# Altium footprint library componenten.PcbLib: 14 footprints
Each footprint in its own frame and in the unit in brackets; x right, y up, seen from the top. Pads: shape width x height; smd on the part's side, far side on the other; paste and mask are expansions set on the pad; w line width, h text height; cw(c..) or ccw(c..) is an arc to the next point about the centre after c.
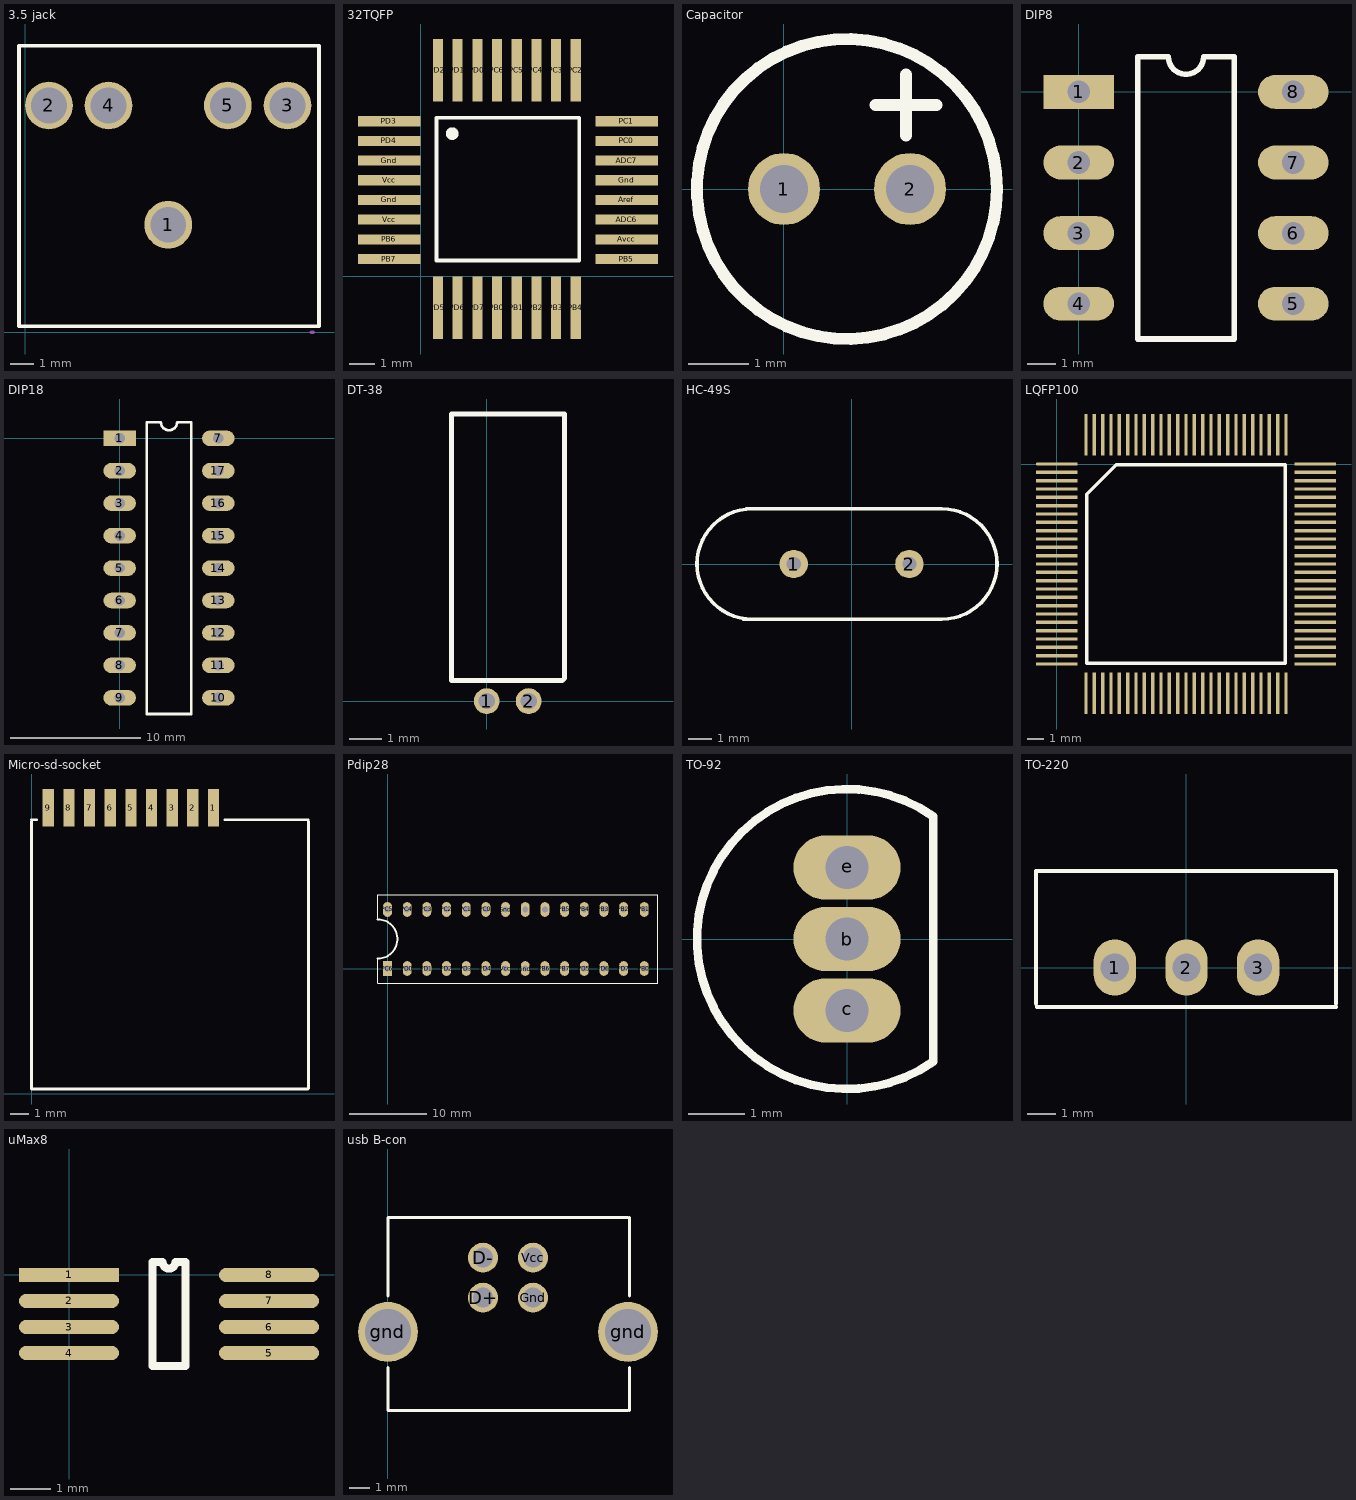
[diagram p0: the footprints below, top view; thin cyan lines are the x and y axes]

## 3.5 jack [mm]
pads (5):
  round 2 hole 1.5: 1(6,4.5) 2(1,9.5) 3(11,9.5) 4(3.5,9.5) 5(8.5,9.5)
Top Overlay:
  lines w0.152: -0.254,0.254 12.319,0.254 12.319,12 -0.254,12 -0.254,0.254
Mechanical 1:
  lines w0.152: 12,0 12.065,0
3D body: height 5, standoff 1, extent 0,0 12,12

## 32TQFP [mm] "Voor atmega328p"
pads (32):
  rect 2.5x0.406 smd: ADC6(8.25,2.273) ADC7(8.25,4.635) Aref(8.25,3.061) Avcc(8.25,1.486) Gnd(-1.25,3.061) Gnd(-1.25,4.635) Gnd(8.25,3.848) PB5(8.25,0.699) PB6(-1.25,1.486) PB7(-1.25,0.699) PC0(8.25,5.423) PC1(8.25,6.21) PD3(-1.25,6.21) PD4(-1.25,5.423) Vcc(-1.25,2.273) Vcc(-1.25,3.848)
  rect 0.406x2.5 smd: PB0(3.061,-1.25) PB1(3.848,-1.25) PB2(4.635,-1.25) PB3(5.423,-1.25) PB4(6.21,-1.25) PC2(6.21,8.25) PC3(5.423,8.25) PC4(4.635,8.25) PC5(3.848,8.25) PC6(3.061,8.25) PD0(2.273,8.25) PD1(1.486,8.25) PD2(0.699,8.25) PD5(0.699,-1.25) PD6(1.486,-1.25) PD7(2.273,-1.25)
Top Overlay:
  lines w0.152: 0.635,0.635 0.635,6.35 6.35,6.35 6.35,0.635 0.635,0.635
  lines w0.254: 1.384,5.658 cw(c1.27,5.715) 1.397,5.715
3D body: height 1.27, standoff 0.05, extent 0,0 6.985,6.985

## Capacitor [mm]
pads (2):
  round 1.2 hole 0.8: 1(0,0) 2(2.1,0)
Top Overlay:
  circle w0.2: c1.05,0 r2.5
  lines w0.2: 1.524,1.397 2.54,1.397 ; 2.032,0.889 2.032,1.905
3D body: height 11, standoff 0, extent -1.438,-2.457 3.556,2.54

## DIP8 [mm]
pads (8):
  rect 2.5x1.2 hole 0.8: 1(0,0)
  oval 2.5x1.2 hole 0.8: 2(0,-2.5) 3(0,-5) 4(0,-7.5) 5(7.6,-7.5) 6(7.6,-5) 7(7.6,-2.5) 8(7.6,0)
Top Overlay:
  lines w0.2: 2.085,-8.75 2.085,1.25 3.175,1.25 ccw(c3.8,1.25) 4.425,1.25 5.515,1.25 5.515,-8.75 2.085,-8.75

## DIP18 [mm]
pads (18):
  rect 2.5x1.2 hole 0.8: 1(0,0)
  oval 2.5x1.2 hole 0.8: 2(0,-2.5) 3(0,-5) 4(0,-7.5) 5(0,-10) 6(0,-12.5) 7(0,-15) 7(7.6,0) 8(0,-17.5) 9(0,-20) 10(7.6,-20) 11(7.6,-17.5) 12(7.6,-15) 13(7.6,-12.5) 14(7.6,-10) 15(7.6,-7.5) 16(7.6,-5) 17(7.6,-2.5)
Top Overlay:
  lines w0.2: 2.085,-21.25 2.085,1.25 3.175,1.25 ccw(c3.8,1.25) 4.425,1.25 5.515,1.25 5.515,-21.25 2.085,-21.25
3D body: height 4.7, standoff 1, extent 0.635,-20.955 6.985,1.27

## DT-38 [mm]
pads (2):
  round 0.8 hole 0.5: 1(0,0) 2(1.3,0)
Top Overlay:
  lines w0.152: -1.095,0.635 2.334,0.635 2.413,0.714 2.413,8.89 -1.095,8.89 -1.095,0.635
3D body: height 3.1, standoff 0.1, extent -0.864,0.763 2.134,8.763

## HC-49S [mm]
pads (2):
  round 1.2 hole 0.6: 1(-2.44,0) 2(2.44,0)
Top Overlay:
  lines w0.152: -4.572,-2.325 3.81,-2.325 ccw(c3.81,0) 3.81,2.325 -4.445,2.325 ; -4.191,-2.328 cw(c-4.191,0) -4.191,2.328
3D body: height 0.3, standoff 0, extent -6.487,-2.297 6.107,2.297
3D body: height 3.7, standoff 0.3, extent -6.104,-1.913 5.341,1.913

## LQFP100 [mm]
pads (100):
  oval 2.5x0.2 smd: 1(0,0)
  rect 2.5x0.2 smd: 2(0,-0.5) 3(0,-1) 4(0,-1.5) 5(0,-2) 6(0,-2.5) 7(0,-3) 8(0,-3.5) 9(0,-4) 10(0,-4.5) 11(0,-5) 12(0,-5.5) 13(0,-6) 14(0,-6.5) 15(0,-7) 16(0,-7.5) 17(0,-8) 18(0,-8.5) 19(0,-9) 20(0,-9.5) 21(0,-10) 22(0,-10.5) 23(0,-11) 24(0,-11.5) 25(0,-12) 51(15.5,-12) 52(15.5,-11.5) 53(15.5,-11) 54(15.5,-10.5) 55(15.5,-10) 56(15.5,-9.5) 57(15.5,-9) 58(15.5,-8.5) 59(15.5,-8) 60(15.5,-7.5) 61(15.5,-7) 62(15.5,-6.5) 63(15.5,-6) 64(15.5,-5.5) 65(15.5,-5) 66(15.5,-4.5) 67(15.5,-4) 68(15.5,-3.5) 69(15.5,-3) 70(15.5,-2.5) 71(15.5,-2) 72(15.5,-1.5) 73(15.5,-1) 74(15.5,-0.5) 75(15.5,0)
  rect 0.2x2.5 smd: 26(1.75,-13.75) 27(2.25,-13.75) 28(2.75,-13.75) 29(3.25,-13.75) 30(3.75,-13.75) 31(4.25,-13.75) 32(4.75,-13.75) 33(5.25,-13.75) 34(5.75,-13.75) 35(6.25,-13.75) 36(6.75,-13.75) 37(7.25,-13.75) 38(7.75,-13.75) 39(8.25,-13.75) 40(8.75,-13.75) 41(9.25,-13.75) 42(9.75,-13.75) 43(10.25,-13.75) 44(10.75,-13.75) 45(11.25,-13.75) 46(11.75,-13.75) 47(12.25,-13.75) 48(12.75,-13.75) 49(13.25,-13.75) 50(13.75,-13.75) 76(13.75,1.75) 77(13.25,1.75) 78(12.75,1.75) 79(12.25,1.75) 80(11.75,1.75) 81(11.25,1.75) 82(10.75,1.75) 83(10.25,1.75) 84(9.75,1.75) 85(9.25,1.75) 86(8.75,1.75) 87(8.25,1.75) 88(7.75,1.75) 89(7.25,1.75) 90(6.75,1.75) 91(6.25,1.75) 92(5.75,1.75) 93(5.25,1.75) 94(4.75,1.75) 95(4.25,1.75) 96(3.75,1.75) 97(3.25,1.75) 98(2.75,1.75) 99(2.25,1.75) 100(1.75,1.75)
Top Overlay:
  lines w0.2: 1.785,-11.965 1.785,-1.82 3.57,-0.035 13.715,-0.035 13.715,-11.965 1.785,-11.965

## Micro-sd-socket [mm]
pads (9):
  rect 0.6x2 smd: 1(9.689,15.24) 2(8.589,15.24) 3(7.489,15.24) 4(6.389,15.24) 5(5.289,15.24) 6(4.189,15.24) 7(3.089,15.24) 8(1.989,15.24) 9(0.889,15.24)
Top Overlay:
  lines w0.152: 0,14.5 0,0.254 14.732,0.254 14.75,0.272 14.75,14.5 ; 0,14.605 0.254,14.605 ; 10.287,14.605 14.732,14.605
3D body: height 2, standoff 0, extent 0,0.127 14.732,14.605

## Pdip28 [mil]
pads (28):
  oval 45x75 hole 30: Aref(700,300) Avcc(800,300) Gnd(600,300) Gnd(700,0) PB0(1305,0) PB1(1305,300) PB2(1200,300) PB3(1100,300) PB4(1000,300) PB5(900,300) PB6(800,0) PB7(900,0) PC0(500,300) PC1(400,300) PC2(300,300) PC3(200,300) PC4(100,300) PC5(0,300) PD0(100,0) PD1(200,0) PD2(300,0) PD3(400,0) PD4(500,0) PD5(1000,0) PD6(1100,0) PD7(1200,0) Vcc(600,0)
  rect 45x75 hole 30: PC6(0,0)
Top Overlay:
  lines w6: -50,50 -50,-75 1375,-75 1375,375 -50,375 -50,250
  lines w10: -50,50 ccw(c-50,150) -50,250
3D body: height 152, standoff 5, extent -50,-5 1375,300
3D body: height 105, standoff -5, extent -10,-10 10,-5
3D body: height 105, standoff -5, extent -10,-10 10,-5
3D body: height 105, standoff -5, extent 90,-10 110,-5
3D body: height 105, standoff -5, extent 190,-10 210,-5
3D body: height 105, standoff -5, extent 290,-10 310,-5
3D body: height 105, standoff -5, extent 390,-10 410,-5
3D body: height 105, standoff -5, extent 490,-10 510,-5
3D body: height 105, standoff -5, extent 590,-10 610,-5
3D body: height 105, standoff -5, extent 690,-10 710,-5
3D body: height 105, standoff -5, extent 790,-10 810,-5
3D body: height 105, standoff -5, extent 890,-10 910,-5
3D body: height 105, standoff -5, extent 990,-10 1010,-5
3D body: height 105, standoff -5, extent 1090,-10 1110,-5
3D body: height 105, standoff -5, extent 1190,-10 1210,-5
3D body: height 105, standoff -5, extent 1290,-10 1310,-5
3D body: height 110, standoff -5, extent -10,300 10,305
3D body: height 110, standoff -5, extent -10,300 10,305
3D body: height 110, standoff -5, extent 90,300 110,305
3D body: height 110, standoff -5, extent 190,300 210,305
3D body: height 110, standoff -5, extent 290,300 310,305
3D body: height 110, standoff -5, extent 390,300 410,305
3D body: height 110, standoff -5, extent 490,300 510,305
3D body: height 110, standoff -5, extent 590,300 610,305
3D body: height 110, standoff -5, extent 690,300 710,305
3D body: height 110, standoff -5, extent 790,300 810,305
3D body: height 110, standoff -5, extent 890,300 910,305
3D body: height 110, standoff -5, extent 990,300 1010,305
3D body: height 110, standoff -5, extent 1090,300 1110,305
3D body: height 110, standoff -5, extent 1190,300 1210,305
3D body: height 110, standoff -5, extent 1290,300 1310,305

## TO-92 [mil] "To-92 package"
height 196.85
pads (3):
  oval 75x45 hole 30: b(0,0) c(0,-50) e(0,50)
Top Overlay:
  lines w6: 60.23,-86.01 cw(c0,0) 60.23,86.01 60.23,-86.01
3D body: height 190.85, standoff -6, extent -12.4,37.53 12.5,62.48
3D body: height 190.85, standoff -6, extent -12.4,-12.47 12.5,12.48
3D body: height 190.85, standoff -6, extent -12.4,-62.47 12.5,-37.52
3D body: height 314.96, standoff 118.11, extent -105,-105 60,105

## TO-220 [mm] "to220 package"
pads (3):
  oval 1.5x2 hole 1: 1(-2.54,0) 2(0,0) 3(2.54,0)
Top Overlay:
  lines w0.152: -5.334,-1.28 -5.334,3.42 ; -5.3,-1.397 5.3,-1.397 ; -5.3,3.42 5.3,3.42 5.3,-1.28
3D body: height 12.9, standoff 3.9, extent -5.334,-1.397 5.334,3.429
3D body: height 4.9, standoff -1, extent 2.159,-0.127 2.921,0.127
3D body: height 4.9, standoff -1, extent -0.381,-0.127 0.381,0.127
3D body: height 4.9, standoff -1, extent -2.921,-0.127 -2.159,0.127
3D body: height 20.4, standoff 7.6, extent -5.334,2.54 5.334,3.429

## uMax8 [mm]
pads (8):
  rect 2.5x0.35 smd: 1(0,0)
  oval 2.5x0.35 smd: 2(0,-0.65) 3(0,-1.3) 4(0,-1.95) 5(5,-1.95) 6(5,-1.3) 7(5,-0.65) 8(5,0)
Top Overlay:
  lines w0.2: 2.085,-2.275 2.915,-2.275 2.915,0.325 2.662,0.325 cw(c2.5,0.325) 2.338,0.325 2.085,0.325 2.085,-2.275

## usb B-con [mm]
height 10
pads (6):
  round 1.5 hole 1: D+(4.75,11.99) D-(4.75,13.99) Gnd(7.25,11.99) Vcc(7.25,13.99)
  round 3 hole 2.3: gnd(0,10.28) gnd(12,10.28)
Top Overlay:
  lines w0.152: 0,8.509 0,6.35 12,6.35 ; 0,12.065 0,13.588 ; 0,14.477 0,13.588 ; 12,16 0,16 0,13.588 ; 12.065,6.35 12.065,8.509 ; 12.065,12.065 12.065,16.002
3D body: height 10.5, standoff 0.5, extent 0,0 12.065,16.002